# EAGLE library part ADG732 (library analog-devices)
1 Circuit IC Switch 32:1 5.5 Ohm
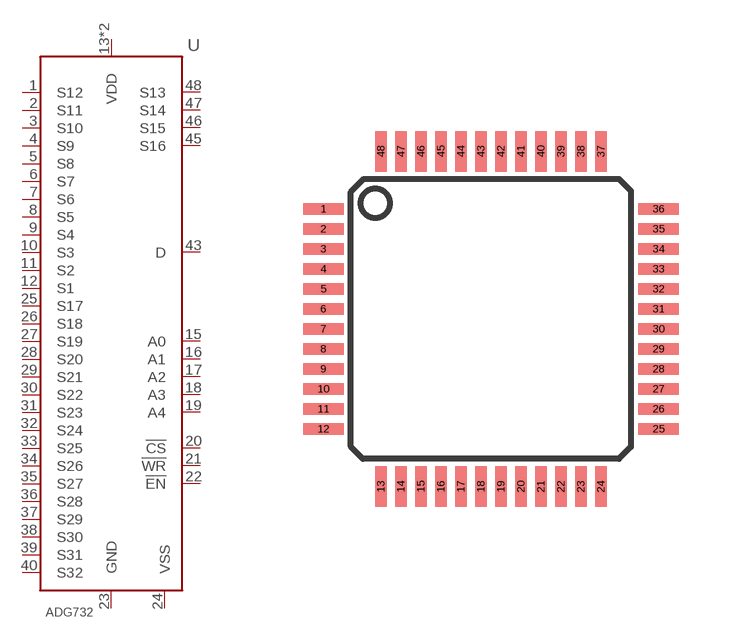
[diagram p70: symbol with the pads of TQFP48; footprint TQFP48]

Designator prefix U

## ADG732 (DIGIKEY: ADG732BSUZ-ND; MFR: Analog Devices Inc.; MPN: ADG732BSUZ; P1I: o)  [TQFP48]
1  S12
2  S11
3  S10
4  S9
5  S8
6  S7
7  S6
8  S5
9  S4
10  S3
11  S2
12  S1
13  VDD
14  VDD
15  A0
16  A1
17  A2
18  A3
19  A4
20  !CS
21  !WR
22  !EN
23  GND
24  VSS
25  S17
26  S18
27  S19
28  S20
29  S21
30  S22
31  S23
32  S24
33  S25
34  S26
35  S27
36  S28
37  S29
38  S30
39  S31
40  S32
43  D
45  S16
46  S15
47  S14
48  S13

## Footprint TQFP48 (pad centres in mm)
smd 1.016 x 0.28: 1 -4.191,2.75; 2 -4.191,2.25; 3 -4.191,1.75; 4 -4.191,1.25; 5 -4.191,0.75; 6 -4.191,0.25; 7 -4.191,-0.25; 8 -4.191,-0.75; 9 -4.191,-1.25; 10 -4.191,-1.75; 11 -4.191,-2.25; 12 -4.191,-2.75; 25 4.191,-2.75; 26 4.191,-2.25; 27 4.191,-1.75; 28 4.191,-1.25; 29 4.191,-0.75; 30 4.191,-0.25; 31 4.191,0.25; 32 4.191,0.75; 33 4.191,1.25; 34 4.191,1.75; 35 4.191,2.25; 36 4.191,2.75
smd 0.28 x 1.016: 13 -2.75,-4.191; 14 -2.25,-4.191; 15 -1.75,-4.191; 16 -1.25,-4.191; 17 -0.75,-4.191; 18 -0.25,-4.191; 19 0.25,-4.191; 20 0.75,-4.191; 21 1.25,-4.191; 22 1.75,-4.191; 23 2.25,-4.191; 24 2.75,-4.191; 37 2.75,4.191; 38 2.25,4.191; 39 1.75,4.191; 40 1.25,4.191; 41 0.75,4.191; 42 0.25,4.191; 43 -0.25,4.191; 44 -0.75,4.191; 45 -1.25,4.191; 46 -1.75,4.191; 47 -2.25,4.191; 48 -2.75,4.191